# EAGLE library part LTC1877 (library linear-technology)
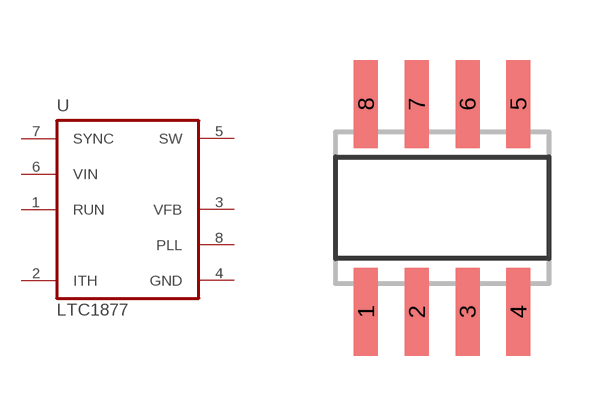
[diagram p19: symbol with the pads of SO08; footprint SO08]

Designator prefix U

## LTC1877 (P1I: o)  [SO08]
1  RUN
2  ITH
3  VFB
4  GND  pwr
5  SW
6  VIN
7  SYNC
8  PLL

## Footprint SO08 (pad centres in mm)
SMALL OUTLINE INTEGRATED CIRCUIT body 3.9 mm/JEDEC MS-012AA
smd 0.6 x 2.2: 1 -1.905,-2.6; 2 -0.635,-2.6; 3 0.635,-2.6; 4 1.905,-2.6; 5 1.905,2.6; 6 0.635,2.6; 7 -0.635,2.6; 8 -1.905,2.6